# Altium footprint library PCB - LEADED - SOT-23 - ONSEMI TSOT-5 CASE483P.PcbLib: 1 footprints
Each footprint in its own frame and in the unit in brackets; x right, y up, seen from the top. Pads: shape width x height; smd on the part's side, far side on the other; paste and mask are expansions set on the pad; w line width, h text height; cw(c..) or ccw(c..) is an arc to the next point about the centre after c.
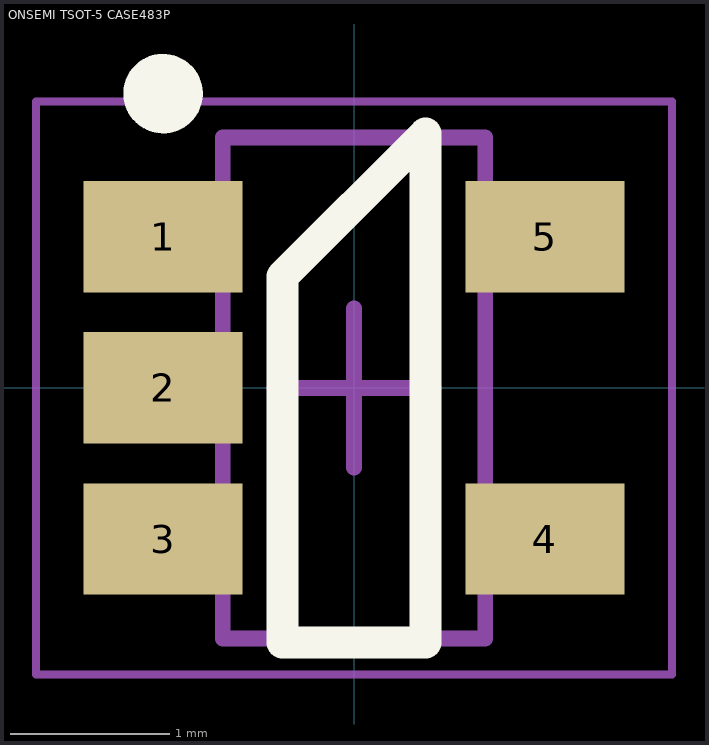
[diagram p0: the footprint, top view; thin cyan lines are the x and y axes]

## ONSEMI TSOT-5 CASE483P [mm] "SOT23, 5-Leads, Body 3.00x2.75mm, Pitch 0.95mm"
height 1.1
pads (5):
  rect 1x0.7 smd: 1(-1.2,0.95) 2(-1.2,0) 3(-1.2,-0.95) 4(1.2,-0.95) 5(1.2,0.95)
Top Overlay:
  circle w0.25: c-1.2,1.85 r0.125
  lines w0.2: -0.45,-1.6 -0.45,0.7 0.45,1.6 0.45,-1.6 -0.45,-1.6
Mechanical 13:
  lines w0.1: -0.825,-1.575 -0.825,1.575 0.825,1.575 0.825,-1.575 -0.825,-1.575
Mechanical 15:
  lines w0.05: -2,-1.8 -2,1.8 2,1.8 2,-1.8 -2,-1.8
  lines w0.1: -0.5,0 0.5,0 ; 0,-0.5 0,0.5
3D body "ONSEMI TSOT-5 CASE483P.step": height 1.1, standoff 0, extent -1.5,-1.575 1.5,1.575